# Altium schematic symbol library Schlib1.SchLib: 4 symbols
Pins are listed as number, name and electrical type; pins without a type are passive.

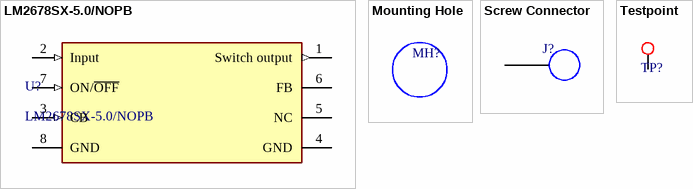
[diagram p0: symbols LM2678SX-5.0/NOPB to Testpoint]

## LM2678SX-5.0/NOPB
designator U?
footprint LM2678SX-5.0/NOPB
pins: 1 Switch output (out), 2 Input (in), 3 CB (in), 4 GND (power), 5 NC, 6 FB, 7 ON/~{OFF} (in), 8 GND

## Mounting Hole
designator MH?
footprint Mounting Hole

## Screw Connector
designator J?
footprint Power Screw Terminal
pins: 1

## Testpoint
designator TP?, comment TP  (value not drawn)
footprint Testpoint
footprint Testpoint
pins: 0